# Altium integrated library Analog Devices Data Converters Analog-to-Digital Converters.IntLib: 2404 symbols (part 201 of 346)
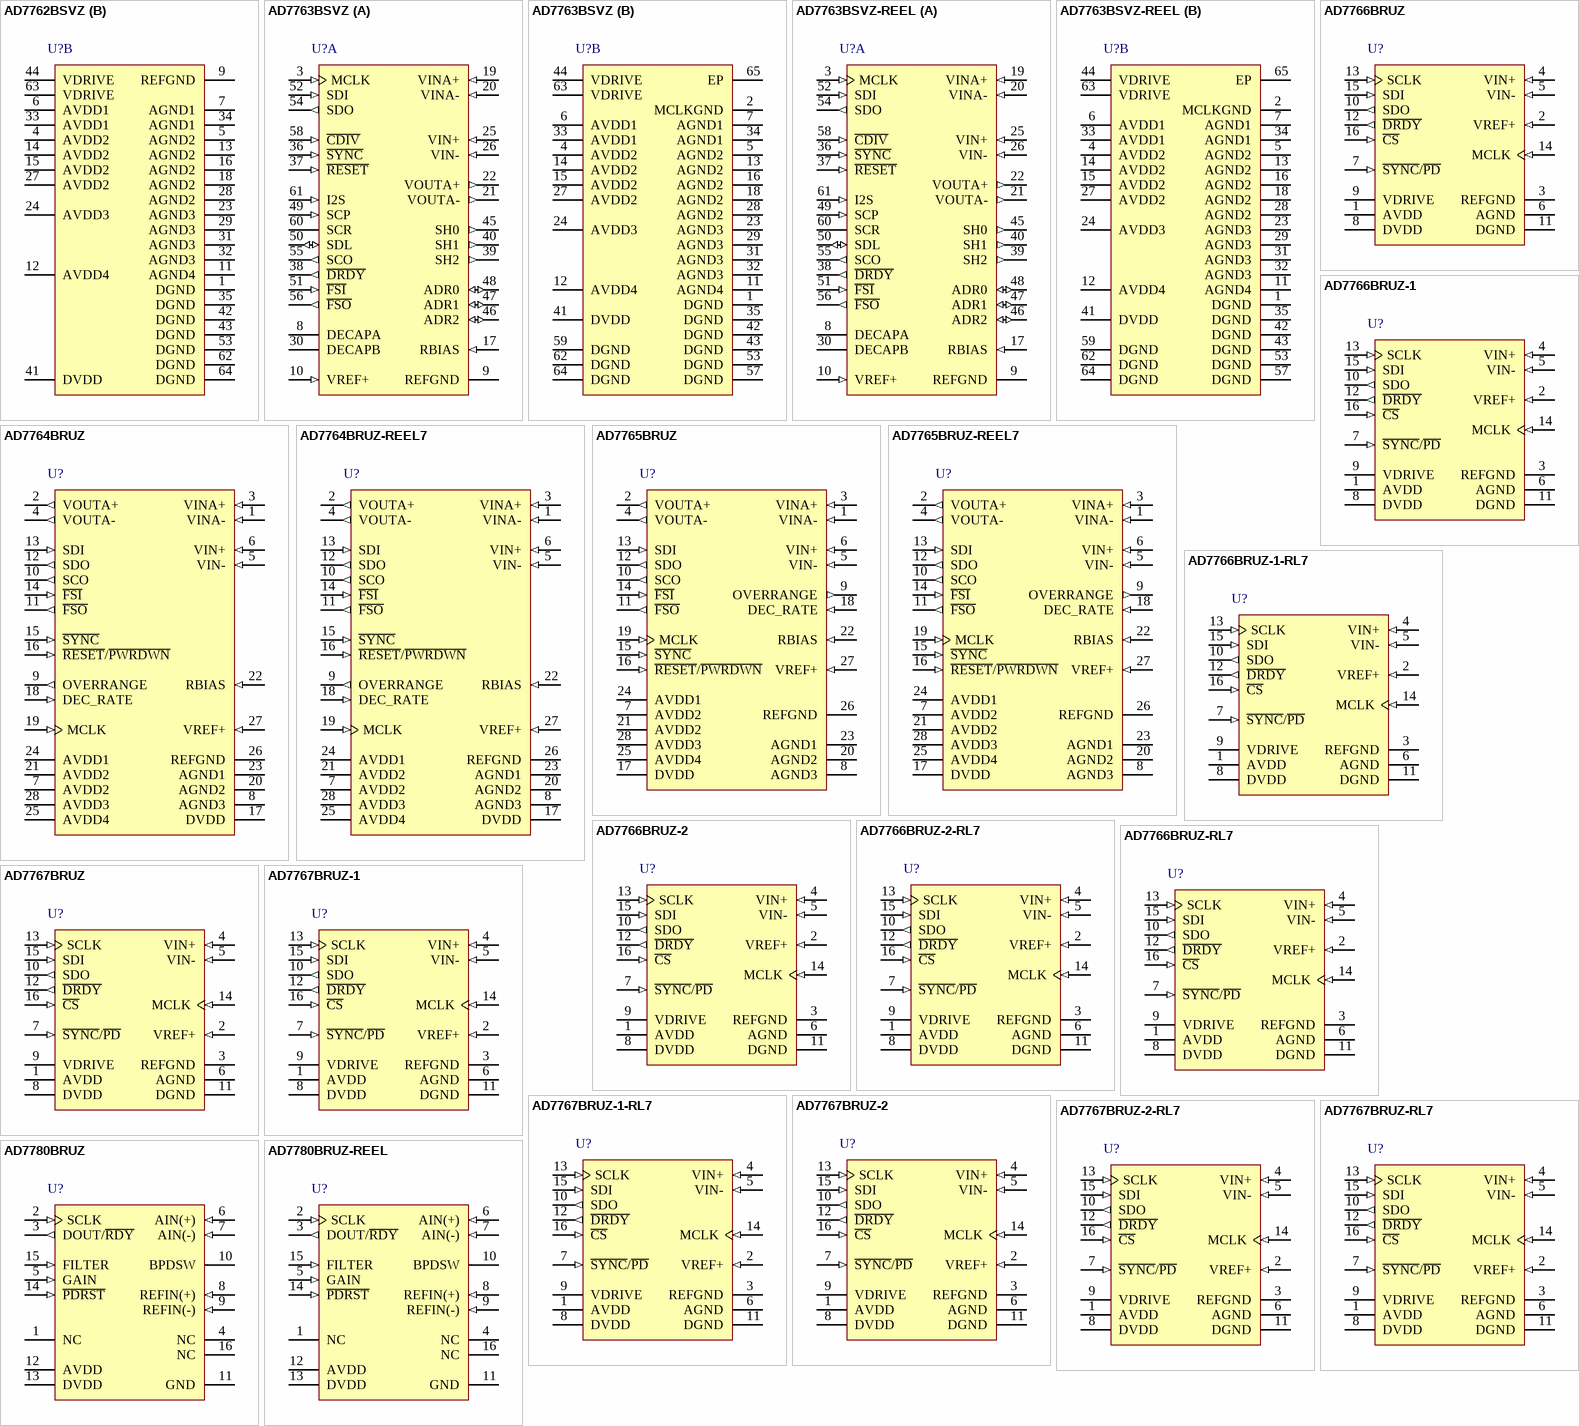
[diagram p363: symbols AD7762BSVZ to AD7780BRUZ-REEL]

## AD7766BRUZ-2-RL7
designator U?
Single 24-Bit Analog-to-Digital Converter with Serial Interface, 128KSPS, -40 to +105 degC, RU-16, Pb-Free, Reel; Generic Part Number: AD7766; Manufacturer: Analog Devices; PartNumber: AD7766BRUZ-2-RL7; Resolution (Bits): 24; Channels: 1; Throughput Rate (SPS): 128K; Interface: Ser; DatasheetVersion: Rev.C; PackageVersion: Nov-2002; PackageReference: RU-16; PackageDescription: 16-Lead Thin Shrink Small Outline Package [TSSOP]; Supplier 1: Digi-Key; Supplier Part Number 1: AD7766BRUZ-2-RL7-ND; Supplier 2: Newark; Supplier Part Number 2: 54M6753; Supplier 3: Mouser; Supplier Part Number 3: 584-AD7766BRUZ-2-R7; RoHS: Y; Packing: Reel; Mounting Technology: Surface Mount; Code_JEDEC: MO-153-AB; ComponentLink1Description: Manufacturer URL; ComponentLink1URL: http://www.analog.com/en/index.html; ComponentLink2Description: Datasheet; ComponentLink2URL: http://www.analog.com/static/imported-files/data_sheets/AD7766.pdf; ComponentLink3Description: Package Specification; ComponentLink3URL: http://www.analog.com/static/imported-files/packages/36244347913743854010197452789RU16.pdf; ComponentLink4Description: Product URL; ComponentLink4URL: http://www.analog.com/en/analog-to-digital-converters/ad-converters/ad7766/products/product.html
footprint RU-16_N (TSOP, 16-Leads, Body 5x4.4mm, Pitch 0.65mm, IPC Medium Density)
footprint RU-16_L (TSOP, 16-Leads, Body 5x4.4mm, Pitch 0.65mm, IPC High Density)
footprint RU-16_M (TSOP, 16-Leads, Body 5x4.4mm, Pitch 0.65mm, IPC Low Density)
pins: 1 AVDD (power) "+2.5 V Analog Power Supply.", 2 VREF+ (in) "Reference Input for the AD7766/AD7766-1/AD7766-2. An external reference must be applied to this input pin. The VREF+ input can range from 2.4 V to 5 V. The reference voltage input is independent of the voltage magnitude (See Datasheet)", 3 REFGND (power) "Reference Ground. Ground connection for the reference voltage. The input reference voltage (VREF+) should be decoupled to this pin.", 4 VIN+ (in) "Positive Input of the Differential Analog Input.", 5 VIN- (in) "Negative Input of the Differential Analog Input.", 6 AGND (power) "Power Supply Ground for Analog Circuitry.", 7 ~{SYNC}/~{PD} (in) "Synchronization and Power-Down Input Pin. This pin has dual functionality. It can be used to synchronize multiple AD7766/AD7766-1/AD7766-2 devices and/or to put the AD7766/AD7766-1/AD7766-2 devices into power-down mode. See (See Datasheet)", 8 DVDD (power) "2.5 V Digital Power Supply Input. In cases where a logic voltage of 2.5 V for interfacing is used, (2.5 V applied to VDRIVE pin), the DVDD and VDRIVE pins may be connected to the same voltage supply rail.", 9 VDRIVE (power) "Logic Power Supply Input, 1.8 V to 3.6 V. The voltage supplied at this pin determines the operating voltage of the digital logic interface.", 10 SDO (out) "Serial Data Output. The conversion result from the AD7766/AD7766-1/AD7766-2 is output on the SDO pin as a 24-bit, twos complement, MSB first, serial data stream.", 11 DGND (power) "Digital Logic Power Supply Ground.", 12 ~{DRDY} (out) "Data Ready Output. A falling edge on the D\R\D\Y\ signal indicates that a new conversion data result is available in the output register of the AD7766/AD7766-1/AD7766-2. See the AD7766/AD7766-1/AD77662-2 Interface section (See Datasheet)", 13 SCLK (in) "Serial Clock Input. The SCLK input provides the serial clock for all serial data transfers with the AD7766/AD7766-1/AD7766-2  devices. See the AD7766/AD7766-1/AD77662-2 Interface section for further details.", 14 MCLK (in) "Master Clock Input. The sampling frequency of the AD7766/AD7766-1/AD7766-2 is equal to the MCLK frequency.", 15 SDI (in) "Serial Data Input. This is the daisy-chain input of the AD7766/AD7766-1/AD7766-2. See the Daisy Chaining section for further details.", 16 ~{CS} (in) "Chip Select Input. The C\S\ input selects a specific AD7766/AD7766-1/AD7766-2 device and acts as an enable on the SDO pin. In cases where C\S\ is used, the MSB of the conversion result is clocked onto the SDO line on the (See Datasheet)"

## AD7766BRUZ-RL7
designator U?
Single 24-Bit Analog-to-Digital Converter with Serial Interface, 128KSPS, -40 to +105 degC, RU-16, Pb-Free, Reel; Generic Part Number: AD7766; Manufacturer: Analog Devices; PartNumber: AD7766BRUZ-RL7; Resolution (Bits): 24; Channels: 1; Throughput Rate (SPS): 128K; Interface: Ser; DatasheetVersion: Rev.C; PackageVersion: Nov-2002; PackageReference: RU-16; PackageDescription: 16-Lead Thin Shrink Small Outline Package [TSSOP]; Supplier 1: Digi-Key; Supplier Part Number 1: AD7766BRUZ-RL7-ND; Supplier 2: Mouser; Supplier Part Number 2: 584-AD7766BRUZ-R7; RoHS: Y; Packing: Reel; Mounting Technology: Surface Mount; Code_JEDEC: MO-153-AB; ComponentLink1Description: Manufacturer URL; ComponentLink1URL: http://www.analog.com/en/index.html; ComponentLink2Description: Datasheet; ComponentLink2URL: http://www.analog.com/static/imported-files/data_sheets/AD7766.pdf; ComponentLink3Description: Package Specification; ComponentLink3URL: http://www.analog.com/static/imported-files/packages/36244347913743854010197452789RU16.pdf; ComponentLink4Description: Product URL; ComponentLink4URL: http://www.analog.com/en/analog-to-digital-converters/ad-converters/ad7766/products/product.html
footprint RU-16_N (TSOP, 16-Leads, Body 5x4.4mm, Pitch 0.65mm, IPC Medium Density)
footprint RU-16_L (TSOP, 16-Leads, Body 5x4.4mm, Pitch 0.65mm, IPC High Density)
footprint RU-16_M (TSOP, 16-Leads, Body 5x4.4mm, Pitch 0.65mm, IPC Low Density)
pins: 1 AVDD (power) "+2.5 V Analog Power Supply.", 2 VREF+ (in) "Reference Input for the AD7766/AD7766-1/AD7766-2. An external reference must be applied to this input pin. The VREF+ input can range from 2.4 V to 5 V. The reference voltage input is independent of the voltage magnitude (See Datasheet)", 3 REFGND (power) "Reference Ground. Ground connection for the reference voltage. The input reference voltage (VREF+) should be decoupled to this pin.", 4 VIN+ (in) "Positive Input of the Differential Analog Input.", 5 VIN- (in) "Negative Input of the Differential Analog Input.", 6 AGND (power) "Power Supply Ground for Analog Circuitry.", 7 ~{SYNC}/~{PD} (in) "Synchronization and Power-Down Input Pin. This pin has dual functionality. It can be used to synchronize multiple AD7766/AD7766-1/AD7766-2 devices and/or to put the AD7766/AD7766-1/AD7766-2 devices into power-down mode. See (See Datasheet)", 8 DVDD (power) "2.5 V Digital Power Supply Input. In cases where a logic voltage of 2.5 V for interfacing is used, (2.5 V applied to VDRIVE pin), the DVDD and VDRIVE pins may be connected to the same voltage supply rail.", 9 VDRIVE (power) "Logic Power Supply Input, 1.8 V to 3.6 V. The voltage supplied at this pin determines the operating voltage of the digital logic interface.", 10 SDO (out) "Serial Data Output. The conversion result from the AD7766/AD7766-1/AD7766-2 is output on the SDO pin as a 24-bit, twos complement, MSB first, serial data stream.", 11 DGND (power) "Digital Logic Power Supply Ground.", 12 ~{DRDY} (out) "Data Ready Output. A falling edge on the D\R\D\Y\ signal indicates that a new conversion data result is available in the output register of the AD7766/AD7766-1/AD7766-2. See the AD7766/AD7766-1/AD77662-2 Interface section (See Datasheet)", 13 SCLK (in) "Serial Clock Input. The SCLK input provides the serial clock for all serial data transfers with the AD7766/AD7766-1/AD7766-2  devices. See the AD7766/AD7766-1/AD77662-2 Interface section for further details.", 14 MCLK (in) "Master Clock Input. The sampling frequency of the AD7766/AD7766-1/AD7766-2 is equal to the MCLK frequency.", 15 SDI (in) "Serial Data Input. This is the daisy-chain input of the AD7766/AD7766-1/AD7766-2. See the Daisy Chaining section for further details.", 16 ~{CS} (in) "Chip Select Input. The C\S\ input selects a specific AD7766/AD7766-1/AD7766-2 device and acts as an enable on the SDO pin. In cases where C\S\ is used, the MSB of the conversion result is clocked onto the SDO line on the (See Datasheet)"

## AD7767BRUZ
designator U?
Single 24-Bit Analog-to-Digital Converter with Serial Interface, 128KSPS, -40 to +105 degC, RU-16, Pb-Free, Tube; Generic Part Number: AD7767; Manufacturer: Analog Devices; PartNumber: AD7767BRUZ; Resolution (Bits): 24; Channels: 1; Throughput Rate (SPS): 128K; Interface: Ser; DatasheetVersion: Rev.C; PackageVersion: Nov-2002; PackageReference: RU-16; PackageDescription: 16-Lead Thin Shrink Small Outline Package [TSSOP]; Supplier 1: Digi-Key; Supplier Part Number 1: AD7767BRUZ-ND; Supplier 2: Farnell; Supplier Part Number 2: 1607232; Supplier 3: Newark; Supplier Part Number 3: 54M6754; Supplier 4: Mouser; Supplier Part Number 4: 584-AD7767BRUZ; RoHS: Y; Packing: Tube; Mounting Technology: Surface Mount; Code_JEDEC: MO-153-AB; ComponentLink1Description: Manufacturer URL; ComponentLink1URL: http://www.analog.com/en/index.html; ComponentLink2Description: Datasheet; ComponentLink2URL: http://www.analog.com/static/imported-files/data_sheets/AD7767.pdf; ComponentLink3Description: Package Specification; ComponentLink3URL: http://www.analog.com/static/imported-files/packages/36244347913743854010197452789RU16.pdf; ComponentLink4Description: Product URL; ComponentLink4URL: http://www.analog.com/en/analog-to-digital-converters/ad-converters/ad7767/products/product.html
footprint RU-16_N (TSOP, 16-Leads, Body 5x4.4mm, Pitch 0.65mm, IPC Medium Density)
footprint RU-16_L (TSOP, 16-Leads, Body 5x4.4mm, Pitch 0.65mm, IPC High Density)
footprint RU-16_M (TSOP, 16-Leads, Body 5x4.4mm, Pitch 0.65mm, IPC Low Density)
pins: 1 AVDD (power) "+2.5 V Analog Power Supply.", 2 VREF+ (in) "Reference Input for the AD7767. An external reference must be applied to this input pin. The VREF+ input can range from 2.4 V to 5 V. The reference voltage input is independent of the voltage magnitude applied to the AVDD (See Datasheet)", 3 REFGND (power) "Reference Ground. Ground connection for the reference voltage. The input reference voltage (VREF+) should be decoupled to this pin.", 4 VIN+ (in) "Positive Input of the Differential Analog Input.", 5 VIN- (in) "Negative Input of the Differential Analog Input.", 6 AGND (power) "Power Supply Ground for Analog Circuitry.", 7 ~{SYNC}/~{PD} (in) "Synchronization and Power-Down Input Pin. This pin has dual functionality. It can be used to synchronize multiple AD7767 devices and/or to put the AD7767 device into power-down mode. See the Power-Down, Reset, and (See Datasheet)", 8 DVDD (power) "2.5 V Digital Power Supply Input. In cases where an logic voltage of 2.5 V is used for interfacing (2.5 V applied to VDRIVE pin), the DVDD and VDRIVE pin may be connected to the same voltage supply rail.", 9 VDRIVE (power) "Logic Power Supply Input, 1.8 V to 3.6 V. The voltage supplied at this pin determines the operating voltage of the digital logic interface.", 10 SDO (out) "Serial Data Output. The conversion result from the AD7767 is output on the SDO pin as a 24-bit, twos complement, MSB first, serial data stream.", 11 DGND (power) "Digital Logic Power Supply Ground.", 12 ~{DRDY} (out) "Data Ready Output. A falling edge on the D\R\D\Y\ signal indicates that a new conversion data result is available in the output register of the AD7767. See the AD7767 Interface section for further details.", 13 SCLK (in) "Serial Clock Input. The SCLK input provides the serial clock for all serial data transfers with the AD7767 device. See the AD7767 Interface section for further details.", 14 MCLK (in) "Master Clock Input. The AD7767 sampling frequency is equal to the MCLK frequency.", 15 SDI (in) "Serial Data Input. This is the daisy-chain input of the AD7767. See the Daisy Chaining section for further details.", 16 ~{CS} (in) "Chip Select Input. The C\S\ input selects the AD7767 device and acts as an enable on the SDO pin. In cases where C\S\ is used, the MSB of the conversion result is clocked onto the SDO line on the C\S\ falling edge. The C\S\ (See Datasheet)"